# Altium schematic symbol library ATL431LIBIDQNR.Schlib: 1 symbol
Pins are listed as number, name and electrical type; pins without a type are passive.

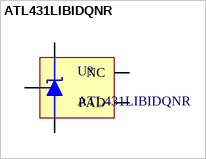
[diagram p0: symbol ATL431LIBIDQNR]

## ATL431LIBIDQNR
designator U?
Shunt Voltage Reference IC Adjustable 2.5V 36 VV ±0.5% 15 mA 4-X2SON (1x1)
pins: 1, 2 NC, 3, 4, 5 PAD